# Altium footprint library IC_AnalogDevices_AD8608ARZ-REEL.PcbLib: 1 footprints
Each footprint in its own frame and in the unit in brackets; x right, y up, seen from the top. Pads: shape width x height; smd on the part's side, far side on the other; paste and mask are expansions set on the pad; w line width, h text height; cw(c..) or ccw(c..) is an arc to the next point about the centre after c.
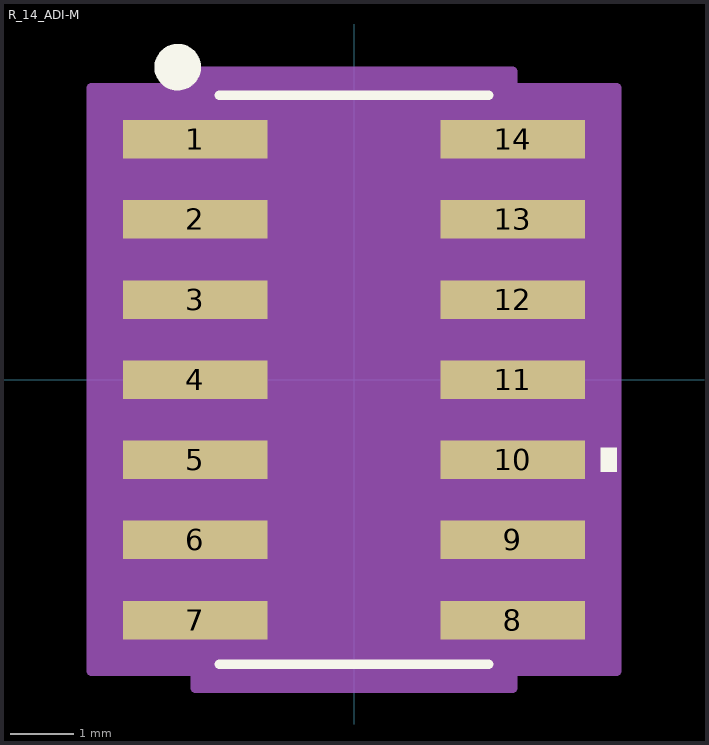
[diagram p0: the footprint, top view; thin cyan lines are the x and y axes]

## R_14_ADI-M [mil]
pads (14):
  rect 90x24 smd paste+0 mask+0: 1(-99,150) 2(-99,100) 3(-99,50) 4(-99,0) 5(-99,-50) 6(-99,-100) 7(-99,-150) 8(99,-150) 9(99,-100) 10(99,-50) 11(99,0) 12(99,50) 13(99,100) 14(99,150)
Top Overlay:
  circle w15: c-110,195 r7.07
  region: 154,-42.5 164,-42.5 164,-57.5 154,-57.5
  lines w6: -84,-177.5 84,-177.5 ; -84,177.5 84,177.5
Mechanical 13:
  lines w0: -12,172.5 ccw(c0,172.5) 12,172.5
  lines w1: -122,-160 -122,-140 -79,-140 -79,-160 -122,-160 ; -122,-110 -122,-90 -79,-90 -79,-110 -122,-110 ; -122,-60 -122,-40 -79,-40 -79,-60 -122,-60 ; -122,-10 -122,10 -79,10 -79,-10 -122,-10 ; -122,40 -122,60 -79,60 -79,40 -122,40 ; -122,90 -122,110 -79,110 -79,90 -122,90 ; -122,140 -122,160 -79,160 -79,140 -122,140 ; -79,-172.5 79,-172.5 79,172.5 -79,172.5 -79,-172.5 ; 79,-160 79,-140 122,-140 122,-160 79,-160 ; 79,-110 79,-90 122,-90 122,-110 79,-110 ; 79,-60 79,-40 122,-40 122,-60 79,-60 ; 79,-10 79,10 122,10 122,-10 79,-10 ; 79,40 79,60 122,60 122,40 79,40 ; 79,90 79,110 122,110 122,90 79,90 ; 79,140 79,160 122,160 122,140 79,140
  text "*" at -76.5,119.5 h50
Mechanical 15:
  region: -99,-182 -164,-182 -164,182 -99,182 -99,192.5 99,192.5 99,182 164,182 164,-182 99,-182 99,-192.5 -99,-192.5
  lines w6: -164,-182 -164,182 -99,182 -99,192.5 99,192.5 99,182 164,182 164,-182 99,-182 99,-192.5 -99,-192.5 -99,-182 -164,-182
3D body "R_14_ADI-M.step": height 69.09, standoff 0, extent -122.01,-172.52 122.01,172.52
3D body: height 10, standoff 0, extent 0,0 10,10